# Altium footprint library SON50P400X500X80-17N-D.PcbLib: 1 footprints
Each footprint in its own frame and in the unit in brackets; x right, y up, seen from the top. Pads: shape width x height; smd on the part's side, far side on the other; paste and mask are expansions set on the pad; w line width, h text height; cw(c..) or ccw(c..) is an arc to the next point about the centre after c.
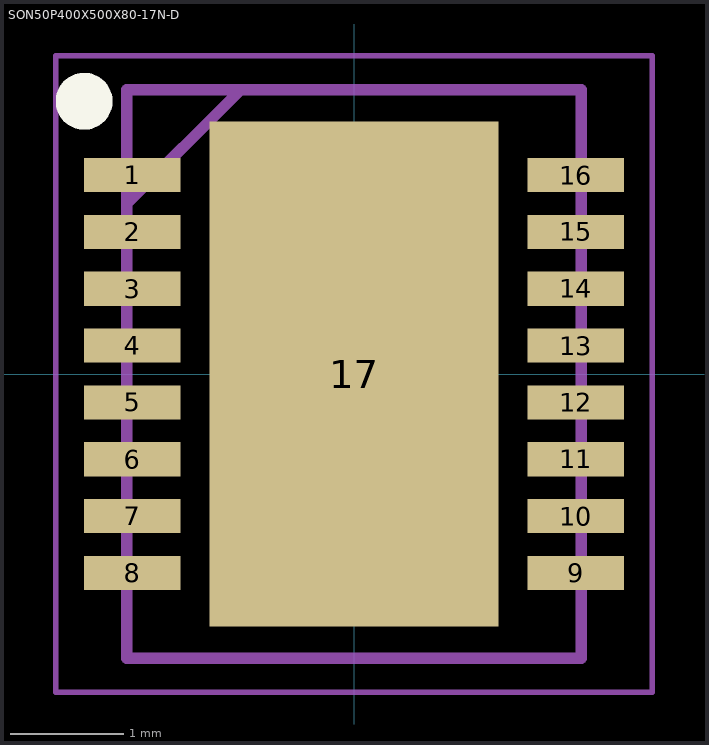
[diagram p0: the footprint, top view; thin cyan lines are the x and y axes]

## SON50P400X500X80-17N-D [mm]
pads (17):
  rect 0.85x0.3 smd: 1(-1.95,1.75) 2(-1.95,1.25) 3(-1.95,0.75) 4(-1.95,0.25) 5(-1.95,-0.25) 6(-1.95,-0.75) 7(-1.95,-1.25) 8(-1.95,-1.75) 9(1.95,-1.75) 10(1.95,-1.25) 11(1.95,-0.75) 12(1.95,-0.25) 13(1.95,0.25) 14(1.95,0.75) 15(1.95,1.25) 16(1.95,1.75)
  rect 2.54x4.44 smd: 17(0,0)
Top Overlay:
  circle w0.25: c-2.375,2.4 r0.125
Mechanical 15:
  lines w0.1: -2,1.5 -1,2.5 ; -2,-2.5 2,-2.5 2,2.5 -2,2.5 -2,-2.5
Mechanical 20:
  lines w0.05: -2.625,-2.8 2.625,-2.8 2.625,2.8 -2.625,2.8 -2.625,-2.8